# Altium schematic symbol library General.SchLib: 1 symbol
Pins are listed as number, name and electrical type; pins without a type are passive.

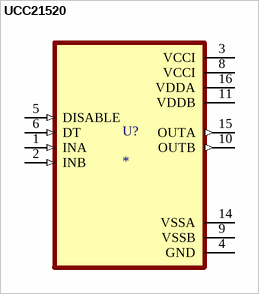
[diagram p0: symbol UCC21520]

## UCC21520
designator U?
5.7kVrms, 4A/6A dual-channel isolated gate driver w/ dual input, disable pin, 8V UVLO in DW package; MF: Texas Instruments; MP: UCC21520DWR; SnapEDA_Link: https://www.snapeda.com/parts/UCC21520DWR/Texas+Instruments/view-part/?ref=snap; Package: SOIC-16 Texas Instruments; Value: *; Check_prices: https://www.snapeda.com/parts/UCC21520DWR/Texas+Instruments/view-part/?ref=eda
footprint DW0016A
pins: 1 INA (in), 2 INB (in), 3 VCCI (power), 4 GND (power), 5 DISABLE (in), 6 DT (in), 8 VCCI (power), 9 VSSB (power), 10 OUTB (out), 11 VDDB (power), 14 VSSA (power), 15 OUTA (out), 16 VDDA (power)